# Altium schematic symbol library UCPD.SchLib: 17 symbols
Pins are listed as number, name and electrical type; pins without a type are passive.

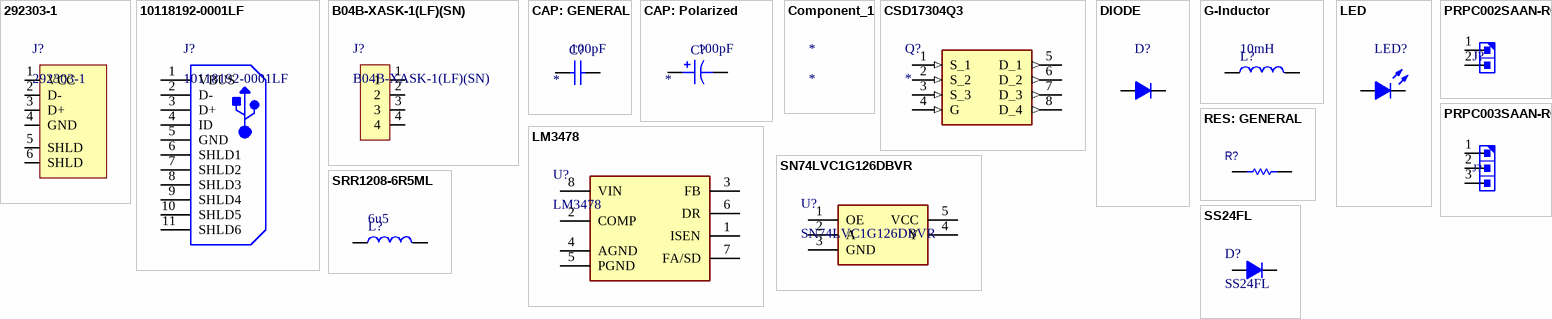
[diagram p0: symbols 292303-1 to SS24FL]

## 292303-1
designator J?
CONN USB2.0 TYPEA 4POS R/A; Manufacturer: TE Connectivity; Manufacturer Part Number: 292303-1; Supplier 1: Digi-Key; Supplier Part Number 1: A31726-ND
footprint 292303-1 (CONN RCPT USB2.0 TYPEA 4POS R/A)
pins: 1 VCC, 2 D-, 3 D+, 4 GND, 5 SHLD, 6 SHLD

## 10118192-0001LF
designator J?
CONN Micro USB B Type Receptacle; Manufacturer: FCI; Current Rating: 1.8A; Number of Contacts: 5Contact; Mounting Angle: Right; Insulation Resistance: 1000MOhms; Connector Type: MicroUSBTypeBreceptacle; Gender: Female; Packaging: Reel; Termination Style: SMD/SMT; Product Category: USBConnectors; RoHS: Details; Flammability Rating: UL94V-0; Standard: USB2.0; Brand: FCI; Manufacturer URL: http://www.fci.com/; Product: MicroUSBTypeBConnectors; Operating Temperature Range: -55Cto+85C; Datasheet Version: Rev. B, 05/2015; Contact Material: CopperAlloy; Contact Plating: Gold; Datasheet URL: http://www.mouser.com/ds/2/154/10118192-793027.pdf; Color: Black; Factory Pack Quantity: 1400; Manufacturer Part Number: 10118192-0001LF; Supplier 1: Digi-Key; Supplier Part Number 1: 609-4613-1-ND
footprint 10118192-0001LF (SMD, 5-Leads, Body 8.05x5.77mm, Pitch 0.65mm)
pins: 1 VBUS, 2 D-, 3 D+, 4 ID, 5 GND, 6 SHLD1, 7 SHLD2, 8 SHLD3, 9 SHLD4, 10 SHLD5, 11 SHLD6

## B04B-XASK-1(LF)(SN)
designator J?
CONN HEADER VERT 4POS 2.5MM; Manufacturer: JST; Manufacturer Part Number: B04B-XASK-1(LF)(SN); Supplier 1: Digi-Key; Supplier Part Number 1: 455-1994-ND
footprint B04B-XASK-1(LF)(SN)
pins: 1, 2, 3, 4

## CAP: GENERAL
designator C?  value 100pF
Capacitor General; Manufacturer Part Number: *; Manufacturer: *; Supplier Part Number 1: *; Accuracy: *; Type: *; Package: *; Supplier 1: Digi-Key; Voltage: *
footprint CAPC0603X03N (Chip Capacitor, 2-Leads, Body 0.60x0.30mm, IPC Medium Density (0201))
footprint CAPC1005X06N (Chip Capacitor, 2-Leads, Body 1.00x0.50mm, IPC Medium Density (0402))
footprint CAPC1608X09N (Chip Capacitor, 2-Leads, Body 1.60x0.80mm, IPC Medium Density (0603))
footprint CAPC2012X14N (Chip Capacitor, 2-Leads, Body 2.00x1.25mm, IPC Medium Density (0805))
footprint CAPC3225X28N (Chip Capacitor, 2-Leads, Body 3.20x2.50mm, IPC Medium Density (1210))
pins: 1, 2

## CAP: Polarized
designator C?  value 100pF
Polarized Capacitor; Manufacturer: *; Manufacturer Part Number: *; Supplier Part Number 1: *; Accuracy: *; Type: *; Package: *; Supplier 1: Digi-Key; Voltage: *
pins: 1, 2
1 alternate drawing of the same symbol

## Component_1
designator *

## CSD17304Q3
designator Q?
MOSFET (N-Channel); Manufacturer: Texas Instruments; Manufacturer Part Number: CSD17304Q3; Datasheet Link: http://www.ti.com/lit/gpn/csd17304q3; Mouser Part Number: 595-CSD17304Q3; Mouser Price/Stock: https://www.mouser.com/Search/Refine.aspx?Keyword=595-CSD17304Q3; Supplier 1: Digi-Key; Supplier Part Number 1: 296-27509-1-ND
footprint DQG_VSON-CLIP
pins: 1 S_1 (in), 2 S_2 (in), 3 S_3 (in), 4 G (in), 5 D_1 (out), 6 D_2 (out), 7 D_3 (out), 8 D_4 (out)

## DIODE
designator D?
DIODE: GENERAL; Color: Green; Supplier 1: Digi-Key
pins: 1 A, 2 K

## G-Inductor
designator L?  value 10mH
Inductor; Manufacturer: *; Manufacturer Part Number: *; Supplier Part Number 1: *; Footprint/Package: *; Placement: *; Properties: *; Supplier 1: *
pins: 1, 2

## LED
designator LED?
LED: General; Color: Green; Supplier 1: Digi-Key
pins: 1 A, 2 K

## LM3478
designator U?
IC REG CTRLR MULT TOPOLOGY 8SOIC; Manufacturer: Texas Instruments; Manufacturer Part Number: LM3478MAX/NOPB; Datasheet Link: http://www.ti.com/lit/gpn/lm3478; Height: 1.75mm; Mouser Part Number: 926-LM3478MA/NOPB; Mouser Price/Stock: https://www.mouser.co.uk/ProductDetail/Texas-Instruments/LM3478MA-NOPB?qs=8BDZloOR%252BZH9CVb1MduuNw%3D%3D; RS Part Number: 8115560P; RS Price/Stock: http://uk.rs-online.com/web/p/products/8115560P; Supplier 1: Digi-Key; Supplier Part Number 1: 296-38111-1-ND
footprint SOIC127P600X175-8N
pins: 1 ISEN, 2 COMP, 3 FB, 4 AGND, 5 PGND, 6 DR, 7 FA/SD, 8 VIN

## PRPC002SAAN-RC
designator J?  (value not drawn)
CONN HEADER VERT 2POS 2.54MM; Manufacturer: Sullins; Pitch: 0.100"; Properties: 1x2; Supplier Part Number 1: S1011EC-02-ND; Supplier 1: Digi-Key; Manufacturer Part Number: PRPC002SAAN-RC; Package: T/H
footprint HDR_1x2_0.100"
pins: 1, 2

## PRPC003SAAN-RC
designator J?  (value not drawn)
CONN HEADER VERT 3POS 2.54MM; Manufacturer: Sullins; Supplier Part Number 1: S1011EC-03-ND; Manufacturer Part Number: PRPC003SAAN-RC; Supplier 1: Digi-Key
footprint HDR 3x1 0.100"
pins: 1, 2, 3

## RES: GENERAL
designator R?
Resistor: General; Value: *; Accuracy: *; Manufacturer: *; Manufacturer Part Number: *; Supplier Part Number 1: *; Power: *; Type: *; Supplier 1: Digi-Key; Package: *
footprint RESC0603X03N (Chip Resistor, 2-Leads, Body 0.60x0.30mm, IPC Medium Density (0201))
footprint RESC1005X03N (Chip Resistor, 2-Leads, Body 1.00x0.50mm, IPC Medium Density)
footprint RESC1608X06N (Chip Resistor, 2-Leads, Body 1.60x0.85mm, IPC Medium Density)
footprint RESC2012X07N (Chip Resistor, 2-Leads, Body 2.00x1.25mm, IPC Medium Density)
pins: 1, 2

## SN74LVC1G126DBVR
designator U?
IC BUF NON-INVERT 5.5V SOT23-5; Manufacturer: Texas Instruments; Datasheet Link: http://www.ti.com/lit/ds/symlink/sn74lvc1g126.pdf; Height: 1.45mm; Manufacturer Part Number: SN74LVC1G126DBVR; Mouser Part Number: 595-SN74LVC1G126DBVR; Mouser Price/Stock: https://www.mouser.com/Search/Refine.aspx?Keyword=595-SN74LVC1G126DBVR; RS Part Number: 7968240P; RS Price/Stock: http://uk.rs-online.com/web/p/products/7968240P; Supplier 1: Digi-Key; Supplier Part Number 1: 296-11605-1-ND
footprint SOT95P280X145-5N
pins: 1 OE, 2 A, 3 GND, 4 Y, 5 VCC

## SRR1208-6R5ML
designator L?  value 6u5  (hidden comment: SRR1208-6R5ML)
FIXED IND 6.5UH 6A 18 MOHM SMD; Manufacturer: Bourns; Manufacturer Part Number: SRR1208-6R5ML; Supplier Part Number 1: SRR1208-6R5MLCT-ND; Footprint/Package: *; Placement: *; Properties: *; Supplier 1: Digi-Key
footprint INDPM127127X850N
pins: 1, 2

## SS24FL
designator D?
DIODE SCHOTTKY 40V 2A SOD123F; Manufacturer: ON Semiconductor; Manufacturer Part Number: SS24FL; Supplier 1: Digi-Key; Supplier Part Number 1: SS24FLCT-ND
footprint SOD-123FL
pins: 1 A, 2 K